# EAGLE library part ATSAM4S16CA-ANR (library XP9300)
MicroChip/ATMEL uP 4S 1MB / 128KRam/ 120Mhz
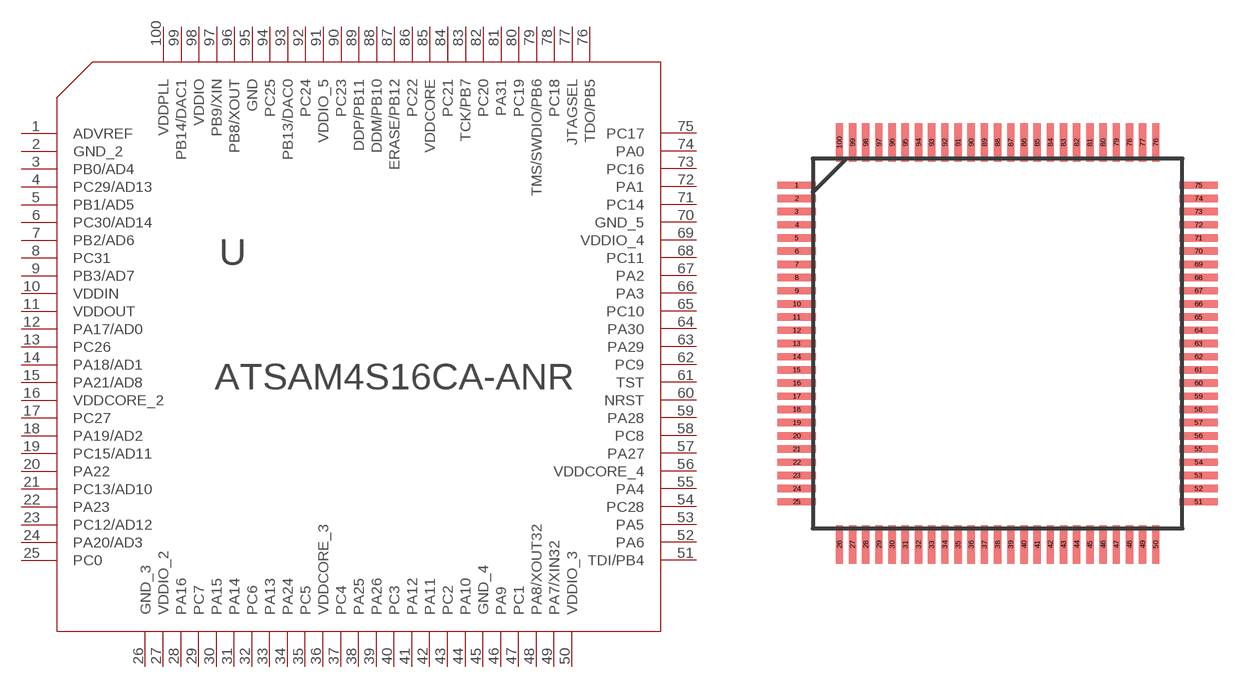
[diagram p1: symbol with the pads of TQFP100_14X14MC_MCH; footprint TQFP100_14X14MC_MCH]

Designator prefix U

## ATSAM4S16CA-ANR (DIGIKEY: 1611-ATSAM4S16CA-ANRCT-ND)  [TQFP100_14X14MC_MCH]
1  ADVREF  pwr
2  GND_2  pas
3  PB0/AD4
4  PC29/AD13
5  PB1/AD5
6  PC30/AD14
7  PB2/AD6
8  PC31
9  PB3/AD7
10  VDDIN  pwr
11  VDDOUT  out
12  PA17/AD0
13  PC26
14  PA18/AD1
15  PA21/AD8
16  VDDCORE_2  pwr
17  PC27
18  PA19/AD2
19  PC15/AD11
20  PA22
21  PC13/AD10
22  PA23
23  PC12/AD12
24  PA20/AD3
25  PC0
26  GND_3  pas
27  VDDIO_2  pwr
28  PA16
29  PC7
30  PA15
31  PA14
32  PC6
33  PA13
34  PA24
35  PC5
36  VDDCORE_3  pwr
37  PC4
38  PA25
39  PA26
40  PC3
41  PA12
42  PA11
43  PC2
44  PA10
45  GND_4  pas
46  PA9
47  PC1
48  PA8/XOUT32  out
49  PA7/XIN32  in
50  VDDIO_3  pwr
51  TDI/PB4  pas
52  PA6
53  PA5
54  PC28
55  PA4
56  VDDCORE_4  pwr
57  PA27
58  PC8
59  PA28
60  NRST  pas
61  TST  pas
62  PC9
63  PA29
64  PA30
65  PC10
66  PA3
67  PA2
68  PC11
69  VDDIO_4  pwr
70  GND_5  pas
71  PC14
72  PA1
73  PC16
74  PA0
75  PC17
76  TDO/PB5  pas
77  JTAGSEL  pas
78  PC18
79  TMS/SWDIO/PB6  pas
80  PC19
81  PA31
82  PC20
83  TCK/PB7  pas
84  PC21
85  VDDCORE  pwr
86  PC22
87  ERASE/PB12  pas
88  DDM/PB10  pas
89  DDP/PB11  pas
90  PC23
91  VDDIO_5  pwr
92  PC24
93  PB13/DAC0
94  PC25
95  GND  pas
96  PB8/XOUT  out
97  PB9/XIN
98  VDDIO  pwr
99  PB14/DAC1
100  VDDPLL  pwr

## Footprint TQFP100_14X14MC_MCH (pad centres in mm)
smd 1.473 x 0.279: 1 -7.62,6; 2 -7.62,5.5; 3 -7.62,5; 4 -7.62,4.5; 5 -7.62,4; 6 -7.62,3.5; 7 -7.62,3; 8 -7.62,2.5; 9 -7.62,2; 10 -7.62,1.5; 11 -7.62,1; 12 -7.62,0.5; 13 -7.62,0; 14 -7.62,-0.5; 15 -7.62,-1; 16 -7.62,-1.5; 17 -7.62,-2; 18 -7.62,-2.5; 19 -7.62,-3; 20 -7.62,-3.5; 21 -7.62,-4; 22 -7.62,-4.5; 23 -7.62,-5; 24 -7.62,-5.5; 25 -7.62,-6; 51 7.62,-6; 52 7.62,-5.5; 53 7.62,-5; 54 7.62,-4.5; 55 7.62,-4; 56 7.62,-3.5; 57 7.62,-3; 58 7.62,-2.5; 59 7.62,-2; 60 7.62,-1.5; 61 7.62,-1; 62 7.62,-0.5; 63 7.62,0; 64 7.62,0.5; 65 7.62,1; 66 7.62,1.5; 67 7.62,2; 68 7.62,2.5; 69 7.62,3; 70 7.62,3.5; 71 7.62,4; 72 7.62,4.5; 73 7.62,5; 74 7.62,5.5; 75 7.62,6
smd 0.279 x 1.473: 26 -6,-7.62; 27 -5.5,-7.62; 28 -5,-7.62; 29 -4.5,-7.62; 30 -4,-7.62; 31 -3.5,-7.62; 32 -3,-7.62; 33 -2.5,-7.62; 34 -2,-7.62; 35 -1.5,-7.62; 36 -1,-7.62; 37 -0.5,-7.62; 38 0,-7.62; 39 0.5,-7.62; 40 1,-7.62; 41 1.5,-7.62; 42 2,-7.62; 43 2.5,-7.62; 44 3,-7.62; 45 3.5,-7.62; 46 4,-7.62; 47 4.5,-7.62; 48 5,-7.62; 49 5.5,-7.62; 50 6,-7.62; 76 6,7.62; 77 5.5,7.62; 78 5,7.62; 79 4.5,7.62; 80 4,7.62; 81 3.5,7.62; 82 3,7.62; 83 2.5,7.62; 84 2,7.62; 85 1.5,7.62; 86 1,7.62; 87 0.5,7.62; 88 0,7.62; 89 -0.5,7.62; 90 -1,7.62; 91 -1.5,7.62; 92 -2,7.62; 93 -2.5,7.62; 94 -3,7.62; 95 -3.5,7.62; 96 -4,7.62; 97 -4.5,7.62; 98 -5,7.62; 99 -5.5,7.62; 100 -6,7.62